# Altium footprint library IC芯片.PcbLib: 18 footprints (part 1 of 2)
Each footprint in its own frame and in the unit in brackets; x right, y up, seen from the top. Pads: shape width x height; smd on the part's side, far side on the other; paste and mask are expansions set on the pad; w line width, h text height; cw(c..) or ccw(c..) is an arc to the next point about the centre after c.
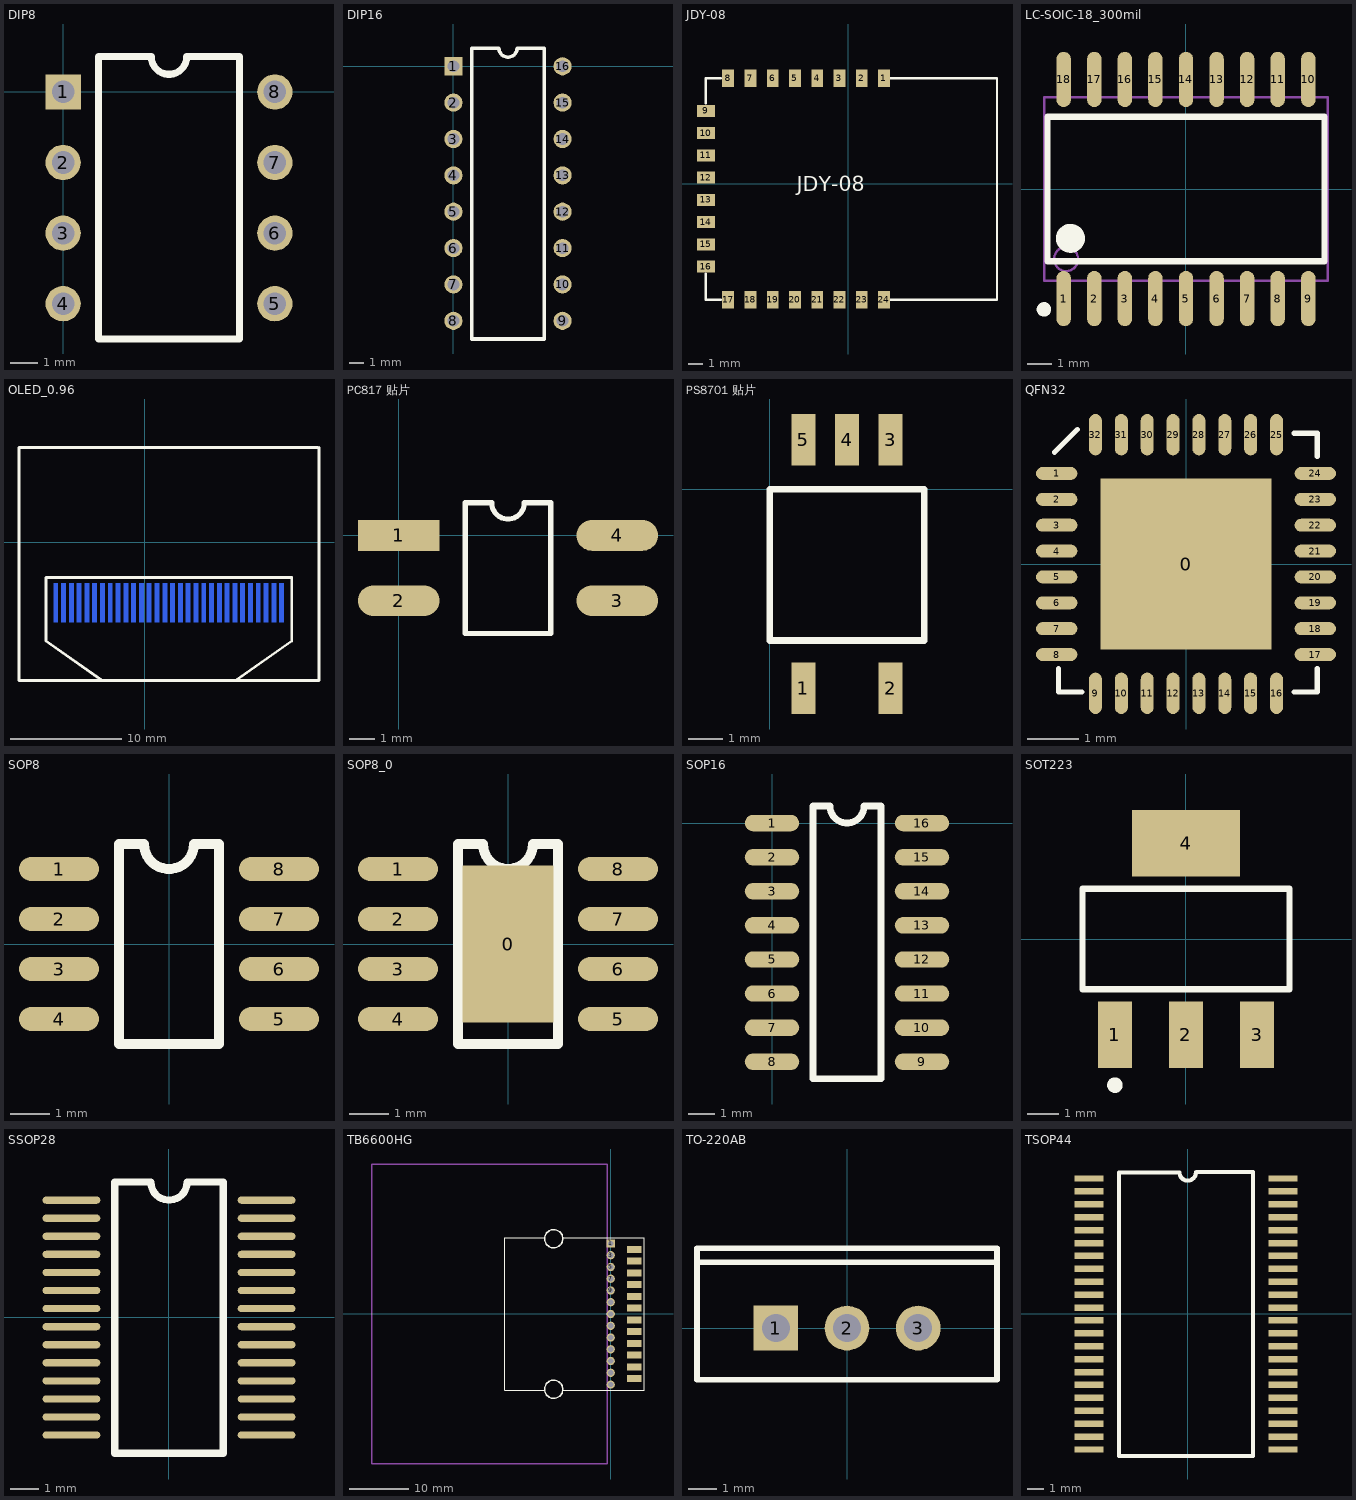
[diagram p0: the footprints below, top view; thin cyan lines are the x and y axes]

## DIP8 [mil]
pads (8):
  rect 50x50 hole 32: 1(0,0)
  round 50 hole 32: 2(0,-100) 3(0,-200) 4(0,-300) 5(300,-300) 6(300,-200) 7(300,-100) 8(300,0)
Top Overlay:
  lines w10: 50,-350 50,50 125,50 ccw(c150,50) 175,50 250,50 250,-350 50,-350

## DIP16 [mil]
pads (16):
  rect 50x50 hole 32: 1(0,0)
  round 50 hole 32: 2(0,-100) 3(0,-200) 4(0,-300) 5(0,-400) 6(0,-500) 7(0,-600) 8(0,-700) 9(300,-700) 10(300,-600) 11(300,-500) 12(300,-400) 13(300,-300) 14(300,-200) 15(300,-100) 16(300,0)
Top Overlay:
  lines w10: 50,-750 250,-750 250,50 175,50 cw(c150,50) 125,50 50,50 50,-750

## JDY-08 [mm]
pads (24):
  rect 0.8x1.2 smd: 1(2.413,7.112) 2(0.913,7.112) 3(-0.587,7.112) 4(-2.087,7.112) 5(-3.587,7.112) 6(-5.087,7.112) 7(-6.587,7.112) 8(-8.087,7.112) 17(-8.087,-7.823) 18(-6.587,-7.823) 19(-5.087,-7.823) 20(-3.587,-7.823) 21(-2.087,-7.823) 22(-0.587,-7.823) 23(0.913,-7.823) 24(2.413,-7.823)
  rect 1.2x0.8 smd: 9(-9.587,4.91) 10(-9.587,3.41) 11(-9.587,1.91) 12(-9.587,0.41) 13(-9.587,-1.09) 14(-9.587,-2.59) 15(-9.587,-4.09) 16(-9.587,-5.59)
Top Overlay:
  lines w0.16: -9.587,-6.064 -9.587,-7.823 -8.571,-7.823 ; -9.587,5.41 -9.587,7.112 -8.571,7.112 ; 2.878,-7.823 3.601,-7.823 10.028,-7.823 10.028,5.207 10.028,7.112 4.973,7.112 2.878,7.112
  text "JDY-08" at -3.456,-0.492 h1

## LC-SOIC-18_300mil [mm]
pads (18):
  oval 0.6x2.3 smd: 1(-5.08,-4.55) 2(-3.81,-4.55) 3(-2.54,-4.55) 4(-1.27,-4.55) 5(0,-4.55) 6(1.27,-4.55) 7(2.54,-4.55) 8(3.81,-4.55) 9(5.08,-4.55) 10(5.08,4.55) 11(3.81,4.55) 12(2.54,4.55) 13(1.27,4.55) 14(0,4.55) 15(-1.27,4.55) 16(-2.54,4.55) 17(-3.81,4.55) 18(-5.08,4.55)
Top Overlay:
  circle w0.3: c-5.9,-5 r0.15
  circle w0.6: c-4.8,-2.05 r0.3
  lines w0.254: -5.75,-3 -5.75,3 5.75,3 5.75,-3 -5.75,-3
Mechanical 13:
  circle w0.1: c-4.98,-2.91 r0.5
  lines w0.1: -5.88,-3.81 -5.88,3.81 5.88,3.81 5.88,-3.81 -5.88,-3.81

## OLED_0.96 [mm]
pads (30):
  rect 0.4x3.5 smd far side: 1(-8.001,-5.461) 2(-7.301,-5.461) 3(-6.601,-5.461) 4(-5.901,-5.461) 5(-5.201,-5.461) 6(-4.501,-5.461) 7(-3.801,-5.461) 8(-3.101,-5.461) 9(-2.401,-5.461) 10(-1.701,-5.461) 11(-1.001,-5.461) 12(-0.301,-5.461) 13(0.399,-5.461) 14(1.099,-5.461) 15(1.799,-5.461) 16(2.499,-5.461) 17(3.199,-5.461) 18(3.899,-5.461) 19(4.599,-5.461) 20(5.299,-5.461) 21(5.999,-5.461) 22(6.699,-5.461) 23(7.399,-5.461) 24(8.099,-5.461) 25(8.799,-5.461) 26(9.499,-5.461) 27(10.199,-5.461) 28(10.899,-5.461) 29(11.599,-5.461) 30(12.299,-5.461)
Top Overlay:
  lines w0.254: -3.81,-12.446 -8.89,-8.89 -8.89,-3.175 13.208,-3.175 13.208,-8.89 8.128,-12.446 ; -3.683,8.509 15.532,8.509 ; -3.429,8.509 -11.303,8.509 -11.303,-12.446 15.659,-12.446 15.659,8.509

## PC817 贴片 [mm]
pads (4):
  rect 3.175x1.2 smd: 1(0,0)
  oval 3.175x1.2 smd: 2(0,-2.54) 3(8.5,-2.54) 4(8.5,0)
Top Overlay:
  lines w0.2: 2.585,-3.81 2.585,1.27 3.615,1.27 ccw(c4.25,1.27) 4.885,1.27 5.915,1.27 5.915,-3.81 2.585,-3.81

## PS8701 贴片 [mm]
pads (5):
  rect 0.7x1.5 smd: 1(0.98,-5.797) 2(3.52,-5.797) 3(3.52,1.442) 4(2.25,1.442) 5(0.98,1.442)
Top Overlay:
  lines w0.203: 0,-4.4 0,0 4.5,0 4.5,-4.4 0,-4.4

## QFN32 [mm]
pads (33):
  rect 3.3x3.3 smd: 0(0,0)
  oval 0.8x0.25 smd: 1(-2.5,1.75) 2(-2.5,1.25) 3(-2.5,0.75) 4(-2.5,0.25) 5(-2.5,-0.25) 6(-2.5,-0.75) 7(-2.5,-1.25) 8(-2.5,-1.75) 17(2.5,-1.75) 18(2.5,-1.25) 19(2.5,-0.75) 20(2.5,-0.25) 21(2.5,0.25) 22(2.5,0.75) 23(2.5,1.25) 24(2.5,1.75)
  oval 0.25x0.8 smd: 9(-1.75,-2.5) 10(-1.25,-2.5) 11(-0.75,-2.5) 12(-0.25,-2.5) 13(0.25,-2.5) 14(0.75,-2.5) 15(1.25,-2.5) 16(1.75,-2.5) 25(1.75,2.5) 26(1.25,2.5) 27(0.75,2.5) 28(0.25,2.5) 29(-0.25,2.5) 30(-0.75,2.5) 31(-1.25,2.5) 32(-1.75,2.5)
Top Overlay:
  lines w0.1: -2.54,2.159 -2.095,2.603 ; -2.463,-2.022 -2.463,-2.472 -2.013,-2.472 ; 2.087,-2.472 2.537,-2.472 2.537,-2.022 ; 2.087,2.528 2.537,2.528 2.537,2.078

## SOP8 [mil]
pads (8):
  oval 80x24 smd: 1(-110,75) 2(-110,25) 3(-110,-25) 4(-110,-75) 5(110,-75) 6(110,-25) 7(110,25) 8(110,75)
Top Overlay:
  lines w10: -50,-100 50,-100 50,100 25,100 cw(c0,100) -25,100 -50,100 -50,-100

## SOP8_0 [mil]
pads (9):
  rect 90.55x157.48 smd: 0(0,0)
  oval 80x24 smd: 1(-110,75) 2(-110,25) 3(-110,-25) 4(-110,-75) 5(110,-75) 6(110,-25) 7(110,25) 8(110,75)
Top Overlay:
  lines w10: -50,-100 -50,100 -25,100 ccw(c0,100) 25,100 50,100 50,-100 -50,-100

## SOP16 [mil]
pads (16):
  oval 80x24 smd: 1(0,0) 2(0,-50) 3(0,-100) 4(0,-150) 5(0,-200) 6(0,-250) 7(0,-300) 8(0,-350) 9(220,-350) 10(220,-300) 11(220,-250) 12(220,-200) 13(220,-150) 14(220,-100) 15(220,-50) 16(220,0)
Top Overlay:
  lines w10: 60,-375 160,-375 160,25 135,25 cw(c110,25) 85,25 60,25 60,-375

## SOT223 [mm] "SOT-223/SC-73; 4 Leads; Body 6.7 x 7.3 mm, inc. leads (LxW max)"
height 1.8
pads (4):
  rect 1.1x2.15 smd: 1(-2.3,-3.1) 2(0,-3.1) 3(2.3,-3.1)
  rect 3.5x2.15 smd: 4(0,3.1)
Top Overlay:
  circle w0.25: c-2.3,-4.725 r0.125
  lines w0.2: -3.35,-1.625 -3.35,1.625 3.35,1.625 3.35,-1.625 -3.35,-1.625

## SSOP28 [mil]
pads (28):
  oval 80x10 smd: 1(-134.41,162.28) 2(-134.41,137.28) 3(-134.41,112.28) 4(-134.41,87.28) 5(-134.41,62.28) 6(-134.41,37.28) 7(-134.41,12.28) 8(-134.41,-12.72) 9(-134.41,-37.72) 10(-134.41,-62.72) 11(-134.41,-87.72) 12(-134.41,-112.72) 13(-134.41,-137.72) 14(-134.41,-162.72) 15(135.59,-162.72) 16(135.59,-137.72) 17(135.59,-112.72) 18(135.59,-87.72) 19(135.59,-62.72) 20(135.59,-37.72) 21(135.59,-12.72) 22(135.59,12.28) 23(135.59,37.28) 24(135.59,62.28) 25(135.59,87.28) 26(135.59,112.28) 27(135.59,137.28) 28(135.59,162.28)
Top Overlay:
  lines w10: -74.41,-187.72 -74.41,187.28 -24.41,187.28 ccw(c0.59,187.28) 25.59,187.28 75.59,187.28 75.59,-187.72 -74.41,-187.72

## TB6600HG [mm]
pads (25):
  rect 1.4x1.4 hole 0.9: 1(0,12)
  rect 2.4x1.2 smd: 2(4,11) 4(4,9) 6(4,7) 8(4,5) 10(4,3) 12(4,1) 14(4,-1) 16(4,-3) 18(4,-5) 20(4,-7) 22(4,-9) 24(4,-11)
  round 1.4 hole 0.9: 3(0,10) 5(0,8) 7(0,6) 9(0,4) 11(0,2) 13(0,0) 15(0,-2) 17(0,-4) 19(0,-6) 21(0,-8) 23(0,-10) 25(0,-12)
Top Overlay:
  circle w0.254: c-9.7,-12.8 r1.55
  circle w0.254: c-9.7,12.8 r1.55
  lines w0.2: -18.01,-13 -18.01,13 ; 5.715,-13 5.715,13
  lines w0.203: -18.01,-13 -11.273,-13 ; -18.01,13 -11.232,13 ; -8.107,13 5.715,13 ; -8.082,-13 5.715,-13
Mechanical 15:
  lines w0.254: -40.652,-25.5 -0.635,-25.5 -0.635,-13 -0.635,25.5 -18.01,25.5 -40.652,25.5 -40.652,-13 -40.652,-25.5

## TO-220AB [mm] "TO, Thru-Hole, Vertical, Heatsink Mounted; 3 In-Line Leads; Pitch 2.54 mm"
height 19.3
pads (3):
  rect 1.6x1.6 hole 1: 1(-2.54,0)
  round 1.6 hole 1: 2(0,0) 3(2.54,0)
Top Overlay:
  lines w0.2: -5.35,2.35 5.35,2.35 ; -5.35,-1.85 5.35,-1.85 5.35,2.85 -5.35,2.85 -5.35,-1.85

## TSOP44 [mm]
pads (44):
  rect 1.8x0.4 smd: 1(-6.105,8.383) 2(-6.105,7.583) 3(-6.105,6.783) 4(-6.105,5.983) 5(-6.105,5.183) 6(-6.105,4.383) 7(-6.105,3.583) 8(-6.105,2.783) 9(-6.105,1.983) 10(-6.105,1.183) 11(-6.105,0.383) 12(-6.105,-0.417) 13(-6.105,-1.217) 14(-6.105,-2.017) 15(-6.105,-2.817) 16(-6.105,-3.617) 17(-6.105,-4.417) 18(-6.105,-5.217) 19(-6.105,-6.017) 20(-6.105,-6.817) 21(-6.105,-7.617) 22(-6.105,-8.417) 23(5.895,-8.417) 24(5.895,-7.617) 25(5.895,-6.817) 26(5.895,-6.017) 27(5.895,-5.217) 28(5.895,-4.417) 29(5.895,-3.617) 30(5.895,-2.817) 31(5.895,-2.017) 32(5.895,-1.217) 33(5.895,-0.417) 34(5.895,0.383) 35(5.895,1.183) 36(5.895,1.983) 37(5.895,2.783) 38(5.895,3.583) 39(5.895,4.383) 40(5.895,5.183) 41(5.895,5.983) 42(5.895,6.783) 43(5.895,7.583) 44(5.895,8.383)
Top Overlay:
  lines w0.2: -4.27,-8.817 4.06,-8.817
  lines w0.254: 0.508,8.763 cw(c0,8.763) -0.508,8.763 -4.25,8.763 -4.25,-8.798 -4.27,-8.817 4.06,-8.817 ; 0.528,8.783 4.06,8.783 4.06,-8.817 ; 4.06,-8.817 4.06,-8.817